# Altium integrated library ALTIUM-WS-TATV-rev17a.IntLib: 24 symbols
Pins are listed as number, name and electrical type; pins without a type are passive.

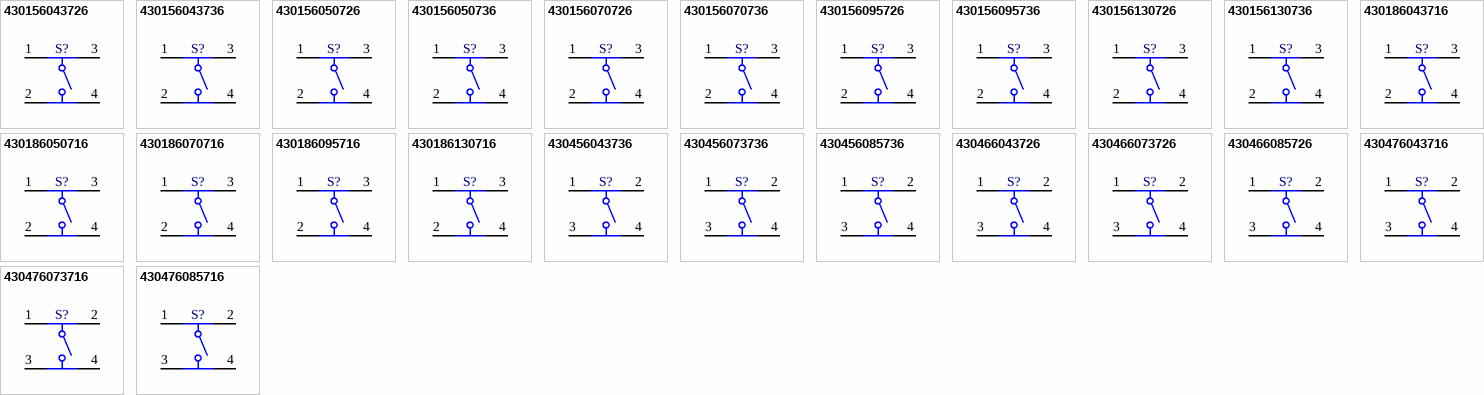
[diagram p0: symbols 430156043726 to 430476085716]

## 430156043726
designator S?
WS-TATV 6x6mm Tact Switch, THT version; Part Number: 430156043726; Operation Force: 260g; ComponentLink1Description: Manufacturer; ComponentLink1URL: http://www.we-online.de; ComponentLink2Description: Datasheet; ComponentLink2URL: http://katalog.we-online.de/em/datasheet/4301x6xxx7x6.pdf; Published Date: June 2017; Publisher: Wurth Elektronik; Size: 6x6x4.3 mm; Life Cycle: 200000 cycles
footprint 4301x60437x6_6x6x4.3
pins: 1, 2, 3, 4

## 430156043736
designator S?
WS-TATV 6x6mm Tact Switch, THT version; Part Number: 430156043736; Operation Force: 360g; ComponentLink1Description: Manufacturer; ComponentLink1URL: http://www.we-online.de; ComponentLink2Description: Datasheet; ComponentLink2URL: http://katalog.we-online.de/em/datasheet/4301x6xxx7x6.pdf; Published Date: June 2017; Publisher: Wurth Elektronik; Size: 6x6x4.3 mm; Life Cycle: 200000 cycles
footprint 4301x60437x6_6x6x4.3 (6x6mm Tact Switch, THT version)
pins: 1, 2, 3, 4

## 430156050726
designator S?
WS-TATV 6x6mm Tact Switch, THT version; Part Number: 430156050726; Operation Force: 260g; ComponentLink1Description: Manufacturer; ComponentLink1URL: http://www.we-online.de; ComponentLink2Description: Datasheet; ComponentLink2URL: http://katalog.we-online.de/em/datasheet/4301x6xxx7x6.pdf; Published Date: June 2017; Publisher: Wurth Elektronik; Size: 6x6x5 mm; Life Cycle: 200000 cycles
footprint 4301x60507x6_6x6x5
pins: 1, 2, 3, 4

## 430156050736
designator S?
WS-TATV 6x6mm Tact Switch, THT version; Part Number: 430156050736; Operation Force: 360g; ComponentLink1Description: Manufacturer; ComponentLink1URL: http://www.we-online.de; ComponentLink2Description: Datasheet; ComponentLink2URL: http://katalog.we-online.de/em/datasheet/4301x6xxx7x6.pdf; Published Date: June 2017; Publisher: Wurth Elektronik; Size: 6x6x5 mm; Life Cycle: 200000 cycles
footprint 4301x60507x6_6x6x5
pins: 1, 2, 3, 4

## 430156070726
designator S?
WS-TATV 6x6mm Tact Switch, THT version; Part Number: 430156070726; Operation Force: 260g; ComponentLink1Description: Manufacturer; ComponentLink1URL: http://www.we-online.de; ComponentLink2Description: Datasheet; ComponentLink2URL: http://katalog.we-online.de/em/datasheet/4301x6xxx7x6.pdf; Published Date: June 2017; Publisher: Wurth Elektronik; Size: 6x6x7 mm; Life Cycle: 200000 cycles
footprint 4301x60707x6_6x6x7
pins: 1, 2, 3, 4

## 430156070736
designator S?
WS-TATV 6x6mm Tact Switch, THT version; Part Number: 430156070736; Operation Force: 360g; ComponentLink1Description: Manufacturer; ComponentLink1URL: http://www.we-online.de; ComponentLink2Description: Datasheet; ComponentLink2URL: http://katalog.we-online.de/em/datasheet/4301x6xxx7x6.pdf; Published Date: June 2017; Publisher: Wurth Elektronik; Size: 6x6x7 mm; Life Cycle: 200000 cycles
footprint 4301x60707x6_6x6x7
pins: 1, 2, 3, 4

## 430156095726
designator S?
WS-TATV 6x6mm Tact Switch, THT version; Part Number: 430156095726; Operation Force: 260g; ComponentLink1Description: Manufacturer; ComponentLink1URL: http://www.we-online.de; ComponentLink2Description: Datasheet; ComponentLink2URL: http://katalog.we-online.de/em/datasheet/4301x6xxx7x6.pdf; Published Date: June 2017; Publisher: Wurth Elektronik; Size: 6x6x9.5 mm; Life Cycle: 200000 cycles
footprint 4301x60957x6_6x6x9.5
pins: 1, 2, 3, 4

## 430156095736
designator S?
WS-TATV 6x6mm Tact Switch, THT version; Part Number: 430156095736; Operation Force: 360g; ComponentLink1Description: Manufacturer; ComponentLink1URL: http://www.we-online.de; ComponentLink2Description: Datasheet; ComponentLink2URL: http://katalog.we-online.de/em/datasheet/4301x6xxx7x6.pdf; Published Date: June 2017; Publisher: Wurth Elektronik; Size: 6x6x9.5 mm; Life Cycle: 200000 cycles
footprint 4301x60957x6_6x6x9.5
pins: 1, 2, 3, 4

## 430156130726
designator S?
WS-TATV 6x6mm Tact Switch, THT version; Part Number: 430156130726; Operation Force: 260g; ComponentLink1Description: Manufacturer; ComponentLink1URL: http://www.we-online.de; ComponentLink2Description: Datasheet; ComponentLink2URL: http://katalog.we-online.de/em/datasheet/4301x6xxx7x6.pdf; Published Date: June 2017; Publisher: Wurth Elektronik; Size: 6x6x13 mm; Life Cycle: 200000 cycles
footprint 4301x61307x6_6x6x13
pins: 1, 2, 3, 4

## 430156130736
designator S?
WS-TATV 6x6mm Tact Switch, THT version; Part Number: 430156130736; Operation Force: 360g; ComponentLink1Description: Manufacturer; ComponentLink1URL: http://www.we-online.de; ComponentLink2Description: Datasheet; ComponentLink2URL: http://katalog.we-online.de/em/datasheet/4301x6xxx7x6.pdf; Published Date: June 2017; Publisher: Wurth Elektronik; Size: 6x6x13 mm; Life Cycle: 200000 cycles
footprint 4301x61307x6_6x6x13
pins: 1, 2, 3, 4

## 430186043716
designator S?
WS-TATV 6x6mm Tact Switch, THT version; Part Number: 430186043716; Operation Force: 160g; ComponentLink1Description: Manufacturer; ComponentLink1URL: http://www.we-online.de; ComponentLink2Description: Datasheet; ComponentLink2URL: http://katalog.we-online.de/em/datasheet/4301x6xxx7x6.pdf; Published Date: June 2017; Publisher: Wurth Elektronik; Size: 6x6x4.3 mm; Life Cycle: 1000000 cycles
footprint 4301x60437x6_6x6x4.3
pins: 1, 2, 3, 4

## 430186050716
designator S?
WS-TATV 6x6mm Tact Switch, THT version; Part Number: 430186050716; Operation Force: 160g; ComponentLink1Description: Manufacturer; ComponentLink1URL: http://www.we-online.de; ComponentLink2Description: Datasheet; ComponentLink2URL: http://katalog.we-online.de/em/datasheet/4301x6xxx7x6.pdf; Published Date: June 2017; Publisher: Wurth Elektronik; Size: 6x6x5 mm; Life Cycle: 1000000 cycles
footprint 4301x60507x6_6x6x5
pins: 1, 2, 3, 4

## 430186070716
designator S?
WS-TATV 6x6mm Tact Switch, THT version; Part Number: 430186070716; Operation Force: 160g; ComponentLink1Description: Manufacturer; ComponentLink1URL: http://www.we-online.de; ComponentLink2Description: Datasheet; ComponentLink2URL: http://katalog.we-online.de/em/datasheet/4301x6xxx7x6.pdf; Published Date: June 2017; Publisher: Wurth Elektronik; Size: 6x6x7 mm; Life Cycle: 1000000 cycles
footprint 4301x60707x6_6x6x7
pins: 1, 2, 3, 4

## 430186095716
designator S?
WS-TATV 6x6mm Tact Switch, THT version; Part Number: 430186095716; Operation Force: 160g; ComponentLink1Description: Manufacturer; ComponentLink1URL: http://www.we-online.de; ComponentLink2Description: Datasheet; ComponentLink2URL: http://katalog.we-online.de/em/datasheet/4301x6xxx7x6.pdf; Published Date: June 2017; Publisher: Wurth Elektronik; Size: 6x6x9.5 mm; Life Cycle: 1000000 cycles
footprint 4301x60957x6_6x6x9.5
pins: 1, 2, 3, 4

## 430186130716
designator S?
WS-TATV 6x6mm Tact Switch, THT version; Part Number: 430186130716; Operation Force: 160g; ComponentLink1Description: Manufacturer; ComponentLink1URL: http://www.we-online.de; ComponentLink2Description: Datasheet; ComponentLink2URL: http://katalog.we-online.de/em/datasheet/4301x6xxx7x6.pdf; Published Date: June 2017; Publisher: Wurth Elektronik; Size: 6x6x13 mm; Life Cycle: 1000000 cycles
footprint 4301x61307x6_6x6x13
pins: 1, 2, 3, 4

## 430456043736
designator S?
WS-TATV 12x12mm washable Tact Switch, THT version; Part Number: 430456043736; Operation Force: 360g; ComponentLink1Description: Manufacturer; ComponentLink1URL: http://www.we-online.de; ComponentLink2Description: Datasheet; ComponentLink2URL: http://katalog.we-online.de/em/datasheet/4304x60437x6.pdf; Published Date: June 2017; Publisher: Wurth Elektronik; Size: 12x12x4.3 mm; Life Cycle: 200000 cycles
footprint 4304x60437x6_12x12x4.3
pins: 1, 2, 3, 4

## 430456073736
designator S?
WS-TATV 12x12mm washable Tact Switch, THT version; Part Number: 430456073736; Operation Force: 360g; ComponentLink1Description: Manufacturer; ComponentLink1URL: http://www.we-online.de; ComponentLink2Description: Datasheet; ComponentLink2URL: http://katalog.we-online.de/em/datasheet/4304x60737x6.pdf; Published Date: June 2017; Publisher: Wurth Elektronik; Size: 12x12x7.3 mm; Life Cycle: 200000 cycles
footprint 4304x60737x6_12x12x7.3
pins: 1, 2, 3, 4

## 430456085736
designator S?
WS-TATV 12x12mm washable Tact Switch, THT version; Part Number: 430456085736; Operation Force: 360g; ComponentLink1Description: Manufacturer; ComponentLink1URL: http://www.we-online.de; ComponentLink2Description: Datasheet; ComponentLink2URL: http://katalog.we-online.de/em/datasheet/4304x60857x6.pdf; Published Date: June 2017; Publisher: Wurth Elektronik; Size: 12x12x8.5 mm; Life Cycle: 200000 cycles
footprint 4304x60857x6_12x12x8.5
pins: 1, 2, 3, 4

## 430466043726
designator S?
WS-TATV 12x12mm washable Tact Switch, THT version; Part Number: 430466043726; Operation Force: 260g; ComponentLink1Description: Manufacturer; ComponentLink1URL: http://www.we-online.de; ComponentLink2Description: Datasheet; ComponentLink2URL: http://katalog.we-online.de/em/datasheet/4304x60437x6.pdf; Published Date: June 2017; Publisher: Wurth Elektronik; Size: 12x12x4.3 mm; Life Cycle: 300000 cycles
footprint 4304x60437x6_12x12x4.3
pins: 1, 2, 3, 4

## 430466073726
designator S?
WS-TATV 12x12mm washable Tact Switch, THT version; Part Number: 430466073726; Operation Force: 260g; ComponentLink1Description: Manufacturer; ComponentLink1URL: http://www.we-online.de; ComponentLink2Description: Datasheet; ComponentLink2URL: http://katalog.we-online.de/em/datasheet/4304x60737x6.pdf; Published Date: June 2017; Publisher: Wurth Elektronik; Size: 12x12x7.3 mm; Life Cycle: 300000 cycles
footprint 4304x60737x6_12x12x7.3
pins: 1, 2, 3, 4

## 430466085726
designator S?
WS-TATV 12x12mm washable Tact Switch, THT version; Part Number: 430466085726; Operation Force: 260g; ComponentLink1Description: Manufacturer; ComponentLink1URL: http://www.we-online.de; ComponentLink2Description: Datasheet; ComponentLink2URL: http://katalog.we-online.de/em/datasheet/4304x60857x6.pdf; Published Date: June 2017; Publisher: Wurth Elektronik; Size: 12x12x8.5 mm; Life Cycle: 300000 cycles
footprint 4304x60857x6_12x12x8.5
pins: 1, 2, 3, 4

## 430476043716
designator S?
WS-TATV 12x12mm washable Tact Switch, THT version; Part Number: 430476043716; Operation Force: 160g; ComponentLink1Description: Manufacturer; ComponentLink1URL: http://www.we-online.de; ComponentLink2Description: Datasheet; ComponentLink2URL: http://katalog.we-online.de/em/datasheet/4304x60437x6.pdf; Published Date: June 2017; Publisher: Wurth Elektronik; Size: 12x12x4.3 mm; Life Cycle: 500000 cycles
footprint 4304x60437x6_12x12x4.3
pins: 1, 2, 3, 4

## 430476073716
designator S?
WS-TATV 12x12mm washable Tact Switch, THT version; Part Number: 430476073716; Operation Force: 160g; ComponentLink1Description: Manufacturer; ComponentLink1URL: http://www.we-online.de; ComponentLink2Description: Datasheet; ComponentLink2URL: http://katalog.we-online.de/em/datasheet/4304x60737x6.pdf; Published Date: June 2017; Publisher: Wurth Elektronik; Size: 12x12x7.3 mm; Life Cycle: 500000 cycles
footprint 4304x60737x6_12x12x7.3
pins: 1, 2, 3, 4

## 430476085716
designator S?
WS-TATV 12x12mm washable Tact Switch, THT version; Part Number: 430476085716; Operation Force: 160g; ComponentLink1Description: Manufacturer; ComponentLink1URL: http://www.we-online.de; ComponentLink2Description: Datasheet; ComponentLink2URL: http://katalog.we-online.de/em/datasheet/4304x60857x6.pdf; Published Date: June 2017; Publisher: Wurth Elektronik; Size: 12x12x8.5 mm; Life Cycle: 500000 cycles
footprint 4304x60857x6_12x12x8.5
pins: 1, 2, 3, 4